# Altium schematic symbol library AC Outlet.SCHLIB: 5 symbols
Pins are listed as number, name and electrical type; pins without a type are passive.

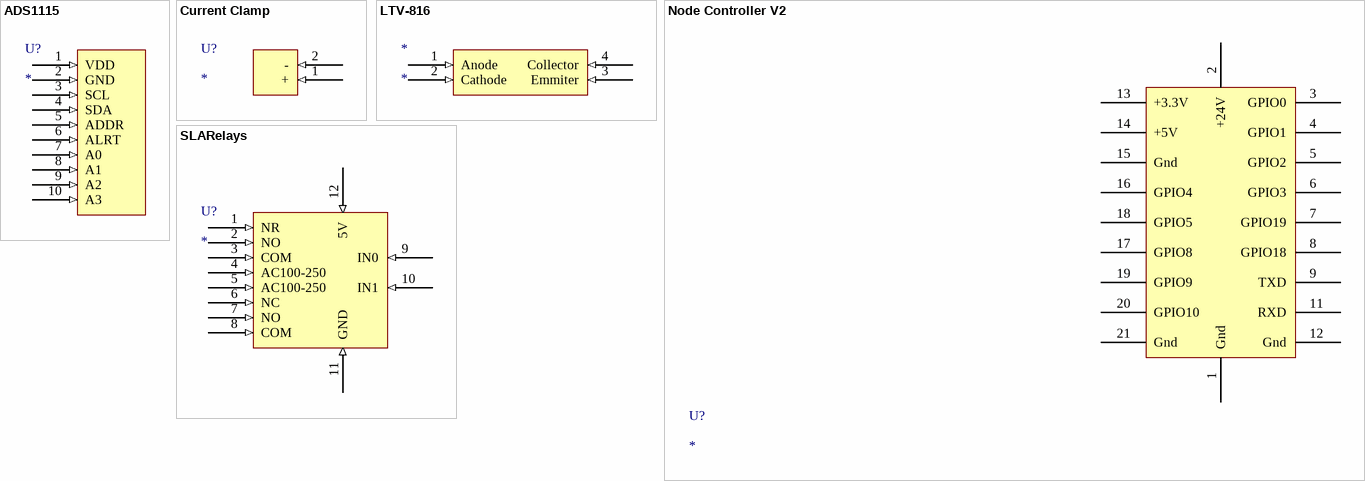
[diagram p0: symbols ADS1115 to SLARelays]

## ADS1115
designator U?
pins: 1 VDD (in), 2 GND (in), 3 SCL (in), 4 SDA (in), 5 ADDR (in), 6 ALRT (in), 7 A0 (in), 8 A1 (in), 9 A2 (in), 10 A3 (in)

## Current Clamp
designator U?
pins: 1 + (in), 2 - (in)

## LTV-816
designator *
pins: 1 Anode (in), 2 Cathode (in), 3 Emmiter (in), 4 Collector (in)

## Node Controller V2
designator U?
pins: 1 Gnd "Ground", 2 +24V, 3 GPIO0, 4 GPIO1, 5 GPIO2, 6 GPIO3, 7 GPIO19, 8 GPIO18, 9 TXD, 11 RXD, 12 Gnd "Ground", 13 +3.3V, 14 +5V, 15 Gnd "Ground", 16 GPIO4, 17 GPIO8 "GPIO5", 18 GPIO5 "GPIO8", 19 GPIO9, 20 GPIO10, 21 Gnd "Ground"

## SLARelays
designator U?
pins: 1 NR (in), 2 NO (in), 3 COM (in), 4 AC100-250 (in), 5 AC100-250 (in), 6 NC (in), 7 NO (in), 8 COM (in), 9 IN0 (in), 10 IN1 (in), 11 GND (in), 12 5V (in)